# Altium footprint library HDRV3W64P254_3X1_720X240H810.PcbLib: 1 footprints
Each footprint in its own frame and in the unit in brackets; x right, y up, seen from the top. Pads: shape width x height; smd on the part's side, far side on the other; paste and mask are expansions set on the pad; w line width, h text height; cw(c..) or ccw(c..) is an arc to the next point about the centre after c.
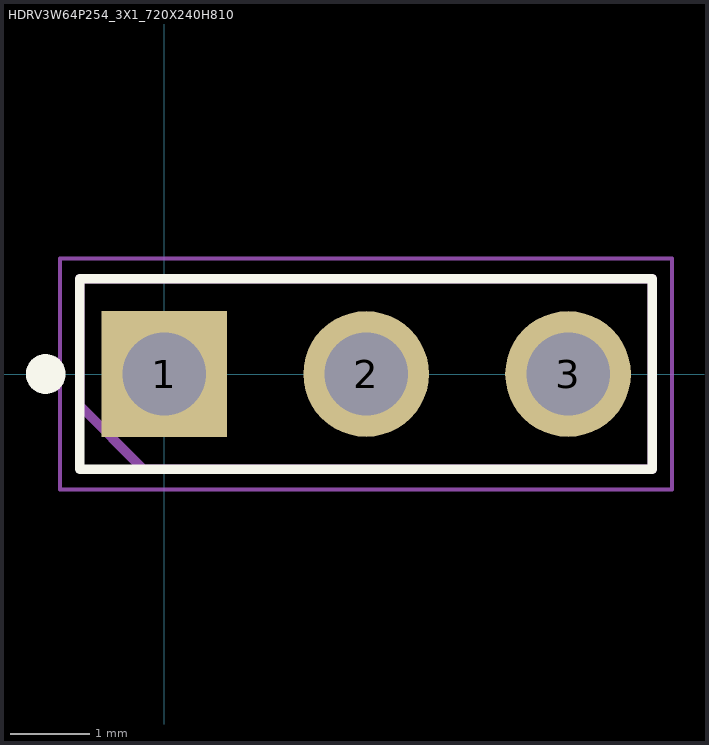
[diagram p0: the footprint, top view; thin cyan lines are the x and y axes]

## HDRV3W64P254_3X1_720X240H810 [mm] "Header, Vertical Non-Shrouded, 2.54 mm pitch; 0.64 mm lead width, 3 pin, 1 row, 7.20 mm L X 2.40 mm W X 8.10 mm H body"
height 8.1
pads (3):
  rect 1.58x1.58 / inner round 1.58 / far side rect 1.58x1.58 hole 1.05 paste-2539.97: 1(0,0)
  round 1.58 hole 1.05 paste-2539.97: 2(2.54,0) 3(5.08,0)
Top Overlay:
  circle w0.25: c-1.49,0 r0.125
  lines w0.12: -1.06,-1.2 6.14,-1.2 6.14,1.2 -1.06,1.2 -1.06,-1.2
Top Assembly:
  lines w0.12: -1.06,-0.4 -0.26,-1.2 6.14,-1.2 6.14,1.2 -1.06,1.2 -1.06,-0.4
Top Component Outline:
  lines w0.025: -1.06,-1.2 6.14,-1.2 ; -1.06,-1.2 -1.06,1.2 ; -1.06,-1.2 6.14,-1.2 ; -1.06,-1.2 -1.06,1.2 ; -1.06,1.2 6.14,1.2 ; -1.06,1.2 6.14,1.2 ; 6.14,-1.2 6.14,1.2 ; 6.14,-1.2 6.14,1.2 ; -0.32,-0.32 0.32,-0.32 0.32,0.32 -0.32,0.32 -0.32,-0.32 ; 2.22,-0.32 2.86,-0.32 2.86,0.32 2.22,0.32 2.22,-0.32 ; 4.76,-0.32 5.4,-0.32 5.4,0.32 4.76,0.32 4.76,-0.32
Top Courtyard:
  circle w0.05: c0,0 r0.25
  lines w0.05: -0.35,0 0.35,0 ; 0,-0.35 0,0.35 ; -1.31,-1.45 6.39,-1.45 6.39,1.45 -1.31,1.45 -1.31,-1.45
Top Designator:
  text ".Designator" at 0,0 h1.2
3D body "HDRV3W64P254_3X1_720X240H810.STEP": height 8.1, standoff -2, extent -1.05,-1.2 6.15,1.2
3D body: height 0.25, standoff 0, extent 0,0 0.254,0.254